# EAGLE library part ESP12E (library esp8266modules)
ESP12E Module
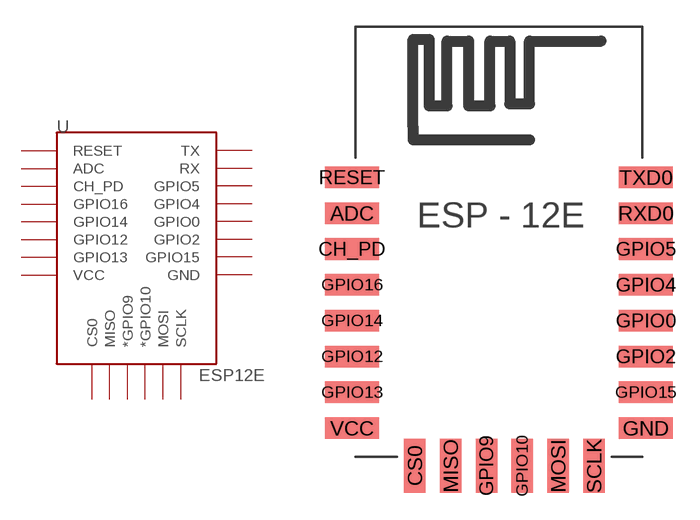
[diagram p0: symbol with the pads of ESP12E-SMD; footprint ESP12E-SMD]

Designator prefix U

## ESP12ESMD  [ESP12E-SMD]
ADC  ADC
CH_PD  CH_PD
CS0  CS0
GND  GND
GPIO0  GPIO0
GPIO2  GPIO2
GPIO4  GPIO4
GPIO5  GPIO5
GPIO9  *GPIO9
GPIO10  *GPIO10
GPIO12  GPIO12
GPIO13  GPIO13
GPIO14  GPIO14
GPIO15  GPIO15
GPIO16  GPIO16
MISO  MISO
MOSI  MOSI
RESET  RESET
RXD0  RX
SCLK  SCLK
TXD0  TX
VCC  VCC

## Footprint ESP12E-SMD (pad centres in mm)
ESP8266 Module 12E
smd 3 x 1.2: ADC -8.3,3.8; CH_PD -8.3,1.8; GND 8.1,-8.2; GPIO0 8.1,-2.2; GPIO2 8.1,-4.2; GPIO4 8.1,-0.2; GPIO5 8.1,1.8; GPIO12 -8.3,-4.2; GPIO13 -8.3,-6.2; GPIO14 -8.3,-2.2; GPIO15 8.1,-6.2; GPIO16 -8.3,-0.2; RESET -8.3,5.8; RXD0 8.1,3.8; TXD0 8.1,5.8; VCC -8.3,-8.2
smd 1.2 x 3: CS0 -4.8,-10.3; GPIO9 -0.8,-10.3; GPIO10 1.2,-10.3; MISO -2.8,-10.3; MOSI 3.2,-10.3; SCLK 5.2,-10.3